# EAGLE library part LM324 (library seanvoisen)
LM324 Quad Op-amp
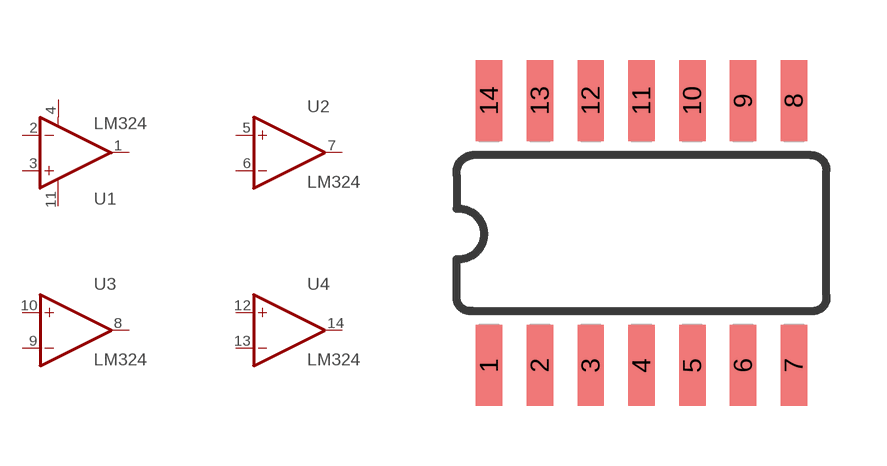
[diagram p1: symbol with the pads of SOIC-14; footprint SOIC-14]

Designator prefix -; gates 1=OP-AMP+- 2=OP-AMP 3=OP-AMP 4=OP-AMP

## LM324  [SOIC-14]
1  1:OUT  out
2  1:-IN  in
3  1:+IN  in
4  1:V+  pwr
5  2:+IN  in
6  2:-IN  in
7  2:OUT  out
8  3:OUT  out
9  3:-IN  in
10  3:+IN  in
11  1:V-  pwr
12  4:+IN  in
13  4:-IN  in
14  4:OUT  out

## Footprint SOIC-14 (pad centres in mm)
smd 0.66 x 2.032: 1 -4.445,-3.315; 2 -3.175,-3.315; 3 -1.905,-3.315; 4 -0.635,-3.315; 5 0.635,-3.315; 6 1.905,-3.315; 7 3.175,-3.315; 8 3.175,3.315; 9 1.905,3.315; 10 0.635,3.315; 11 -0.635,3.315; 12 -1.905,3.315; 13 -3.175,3.315; 14 -4.445,3.315